# EAGLE library part ATTINY13A (library Battle_Switch)
ATtiny13A microcontroller by Atmel.
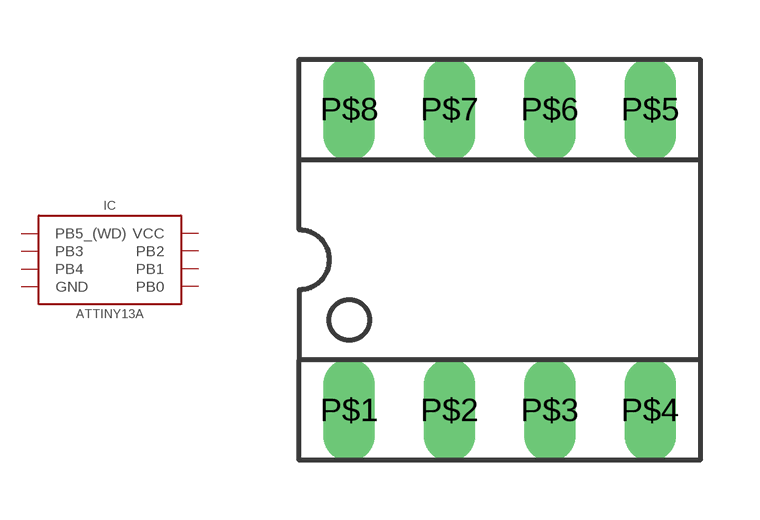
[diagram p1: symbol with the pads of 8-PDIP; footprint 8-PDIP]

Designator prefix IC

## ATTINY13A  [8-PDIP]
P$1  PB5_(WD)
P$2  PB3
P$3  PB4
P$4  GND  pwr
P$5  PB0
P$6  PB1
P$7  PB2
P$8  VCC  pwr

## Footprint 8-PDIP (pad centres in mm)
8-PDIP package compliant to the JEDEC MS-001 standard.
drill 0.8 long: P$1 -3.81,-3.81; P$2 -1.27,-3.81; P$3 1.27,-3.81; P$4 3.81,-3.81; P$5 3.81,3.81; P$6 1.27,3.81; P$7 -1.27,3.81; P$8 -3.81,3.81